# EAGLE library part 4020270 (library ampex)
Repro EQ Card
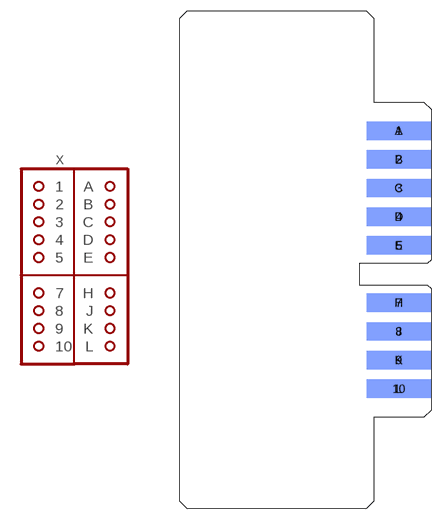
[diagram p1: symbol with the pads of 4020270; footprint 4020270]

Designator prefix X

## 4020270  [4020270]
1  1  pas
2  2  pas
3  3  pas
4  4  pas
5  5  pas
7  7  pas
8  8  pas
9  9  pas
10  10  pas
A  A  pas
B  B  pas
C  C  pas
D  D  pas
E  E  pas
H  H  pas
J  J  pas
K  K  pas
L  L  pas

## Footprint 4020270 (pad centres in mm)
REPRO EQ
smd 8.89 x 2.54 bottom: 1 2.832,-4.521; 2 2.832,-8.484; 3 2.832,-12.446; 4 2.832,-16.408; 5 2.832,-20.371; 7 2.832,-28.296; 8 2.832,-32.258; 9 2.832,-36.22; 10 2.832,-40.183
smd 8.89 x 2.54: A 2.832,-4.521; B 2.832,-8.484; C 2.832,-12.446; D 2.832,-16.408; E 2.832,-20.371; H 2.832,-28.296; J 2.832,-32.258; K 2.832,-36.22; L 2.832,-40.183